# Altium footprint library WANGYU92100PcbLib.PcbLib: 392 footprints (part 13 of 25)
Each footprint in its own frame and in the unit in brackets; x right, y up, seen from the top. Pads: shape width x height; smd on the part's side, far side on the other; paste and mask are expansions set on the pad; w line width, h text height; cw(c..) or ccw(c..) is an arc to the next point about the centre after c.
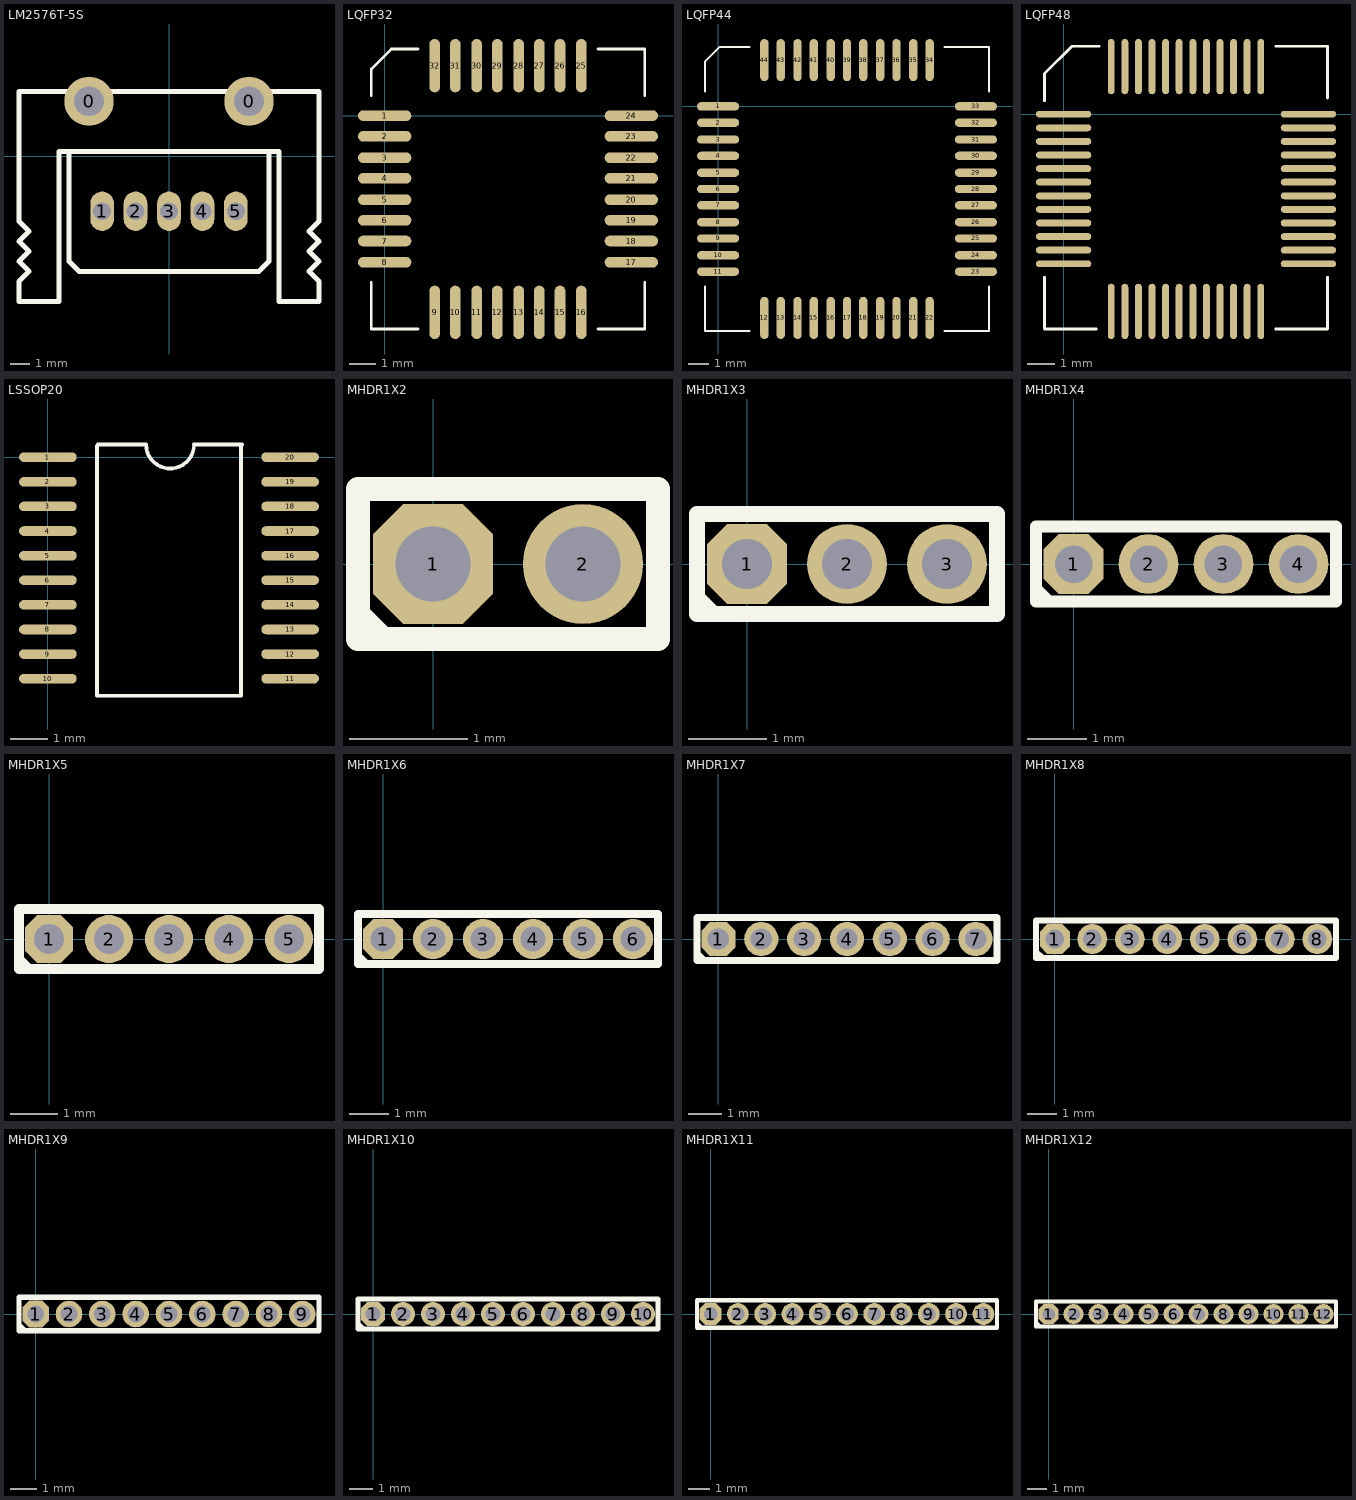
[diagram p12: the footprints below, top view; thin cyan lines are the x and y axes]

## LM2576T-5S [mm]
pads (7):
  round 2.5 hole 1.5: 0(-4.064,2.794) 0(4.064,2.794)
  oval 1.2x2 hole 0.9: 1(-3.4,-2.794) 2(-1.7,-2.794) 3(0,-2.794) 4(1.7,-2.794) 5(3.4,-2.794)
Top Overlay:
  lines w0.254: -5.08,0.254 -5.08,-0.254 -5.08,-5.334 -4.572,-5.842 4.572,-5.842 5.08,-5.334 5.08,-0.254 5.08,0.254 ; -7.62,-7.366 -5.588,-7.366 -5.588,0.254 5.588,0.254 5.588,-7.366 7.62,-7.366 7.62,-6.35 7.112,-5.842 7.62,-5.334 7.112,-4.826 7.62,-4.318 7.112,-3.81 7.62,-3.302 7.62,3.302 -7.62,3.302 -7.62,-3.302 -7.112,-3.81 -7.62,-4.318 -7.112,-4.826 -7.62,-5.334 -7.112,-5.842 -7.62,-6.35 -7.62,-7.366

## LQFP32 [mil]
pads (32):
  oval 80x16 smd: 1(0,0) 2(0,-31) 3(0,-63) 4(0,-94) 5(0,-126) 6(0,-157) 7(0,-188) 8(0,-220) 17(370,-220) 18(370,-188) 19(370,-157) 20(370,-126) 21(370,-94) 22(370,-63) 23(370,-31) 24(370,0)
  oval 16x80 smd: 9(75,-295) 10(106,-295) 11(138,-295) 12(169,-295) 13(201,-295) 14(232,-295) 15(263,-295) 16(295,-295) 25(295,75) 26(263,75) 27(232,75) 28(201,75) 29(169,75) 30(138,75) 31(106,75) 32(75,75)
Top Overlay:
  lines w4: -20,-250 -20,-320 50,-320 ; -20,30 -20,70 10,100 50,100 ; 320,-320 390,-320 390,-250 ; 320,100 390,100 390,30

## LQFP44 [mil]
pads (44):
  oval 80x16 smd: 1(0,0) 2(0,-31) 3(0,-63) 4(0,-94) 5(0,-126) 6(0,-157) 7(0,-188) 8(0,-220) 9(0,-251) 10(0,-283) 11(0,-314) 23(490,-314) 24(490,-283) 25(490,-251) 26(490,-220) 27(490,-188) 28(490,-157) 29(490,-126) 30(490,-94) 31(490,-63) 32(490,-31) 33(490,0)
  oval 16x80 smd: 12(88,-402) 13(119,-402) 14(151,-402) 15(182,-402) 16(214,-402) 17(245,-402) 18(276,-402) 19(308,-402) 20(339,-402) 21(371,-402) 22(402,-402) 34(402,88) 35(371,88) 36(339,88) 37(308,88) 38(276,88) 39(245,88) 40(214,88) 41(182,88) 42(151,88) 43(119,88) 44(88,88)
Top Overlay:
  lines w4: -25,-342 -25,-427 60,-427 ; -25,28 -25,85 3,113 60,113 ; 430,-427 515,-427 515,-342 ; 430,113 515,113 515,28

## LQFP48 [mil]
pads (48):
  oval 80x10 smd: 1(0,0) 2(0,-19.68) 3(0,-39.37) 4(0,-59.06) 5(0,-78.74) 6(0,-98.43) 7(0,-118.11) 8(0,-137.8) 9(0,-157.48) 10(0,-177.17) 11(0,-196.85) 12(0,-216.54) 25(354.33,-216.54) 26(354.33,-196.85) 27(354.33,-177.17) 28(354.33,-157.48) 29(354.33,-137.8) 30(354.33,-118.11) 31(354.33,-98.43) 32(354.33,-78.74) 33(354.33,-59.06) 34(354.33,-39.37) 35(354.33,-19.68) 36(354.33,0)
  oval 10x80 smd: 13(68.9,-285.43) 14(88.58,-285.43) 15(108.27,-285.43) 16(127.95,-285.43) 17(147.64,-285.43) 18(167.32,-285.43) 19(187.01,-285.43) 20(206.69,-285.43) 21(226.38,-285.43) 22(246.06,-285.43) 23(265.75,-285.43) 24(285.43,-285.43) 37(285.43,68.9) 38(265.75,68.9) 39(246.06,68.9) 40(226.38,68.9) 41(206.69,68.9) 42(187.01,68.9) 43(167.32,68.9) 44(147.64,68.9) 45(127.95,68.9) 46(108.27,68.9) 47(88.58,68.9) 48(68.9,68.9)
Top Overlay:
  lines w3.94: -27.56,-236.22 -27.56,-311.02 47.24,-311.02 ; -27.56,19.68 -27.56,59.06 11.81,98.43 51.18,98.43 ; 307.09,-311.02 381.89,-311.02 381.89,-236.22 ; 307.09,98.43 381.89,98.43 381.89,23.62

## LSSOP20 [mil]
pads (20):
  oval 60x10 smd: 1(0,0) 2(0,-25.59) 3(0,-51.18) 4(0,-76.77) 5(0,-102.36) 6(0,-127.95) 7(0,-153.54) 8(0,-179.13) 9(0,-204.72) 10(0,-230.31) 11(251.97,-230.31) 12(251.97,-204.72) 13(251.97,-179.13) 14(251.97,-153.54) 15(251.97,-127.95) 16(251.97,-102.36) 17(251.97,-76.77) 18(251.97,-51.18) 19(251.97,-25.59) 20(251.97,0)
Top Overlay:
  lines w3.94: 51.18,11.81 51.18,-248.03 200.79,-248.03 200.79,11.81 ; 52.13,13.19 102.13,13.19 ccw(c127.13,13.19) 152.13,13.19 202.13,13.19

## MHDR1X2 [mil]
pads (2):
  oct 40x40 hole 25: 1(0,0)
  round 40 hole 25: 2(50,0)
Top Overlay:
  lines w8: -25,-16.67 -16.67,-25 ; -25,-25 75,-25 75,25 -25,25 -25,-25

## MHDR1X3 [mil]
pads (3):
  oct 40x40 hole 25: 1(0,0)
  round 40 hole 25: 2(50,0) 3(100,0)
Top Overlay:
  lines w8: -25,-16.67 -16.67,-25 ; -25,-25 125,-25 125,25 -25,25 -25,-25

## MHDR1X4 [mil]
pads (4):
  oct 40x40 hole 25: 1(0,0)
  round 40 hole 25: 2(50,0) 3(100,0) 4(150,0)
Top Overlay:
  lines w8: -25,-16.67 -16.67,-25 ; -25,-25 175,-25 175,25 -25,25 -25,-25

## MHDR1X5 [mil]
pads (5):
  oct 40x40 hole 25: 1(0,0)
  round 40 hole 25: 2(50,0) 3(100,0) 4(150,0) 5(200,0)
Top Overlay:
  lines w8: -25,-16.67 -16.67,-25 ; -25,-25 225,-25 225,25 -25,25 -25,-25

## MHDR1X6 [mil]
pads (6):
  oct 40x40 hole 25: 1(0,0)
  round 40 hole 25: 2(50,0) 3(100,0) 4(150,0) 5(200,0) 6(250,0)
Top Overlay:
  lines w8: -25,-16.67 -16.67,-25 ; -25,-25 275,-25 275,25 -25,25 -25,-25

## MHDR1X7 [mil]
pads (7):
  oct 40x40 hole 25: 1(0,0)
  round 40 hole 25: 2(50,0) 3(100,0) 4(150,0) 5(200,0) 6(250,0) 7(300,0)
Top Overlay:
  lines w8: -25,-16.67 -16.67,-25 ; -25,-25 325,-25 325,25 -25,25 -25,-25

## MHDR1X8 [mil]
pads (8):
  oct 40x40 hole 25: 1(0,0)
  round 40 hole 25: 2(50,0) 3(100,0) 4(150,0) 5(200,0) 6(250,0) 7(300,0) 8(350,0)
Top Overlay:
  lines w8: -25,-16.67 -16.67,-25 ; -25,-25 375,-25 375,25 -25,25 -25,-25

## MHDR1X9 [mil]
pads (9):
  oct 40x40 hole 25: 1(0,0)
  round 40 hole 25: 2(50,0) 3(100,0) 4(150,0) 5(200,0) 6(250,0) 7(300,0) 8(350,0) 9(400,0)
Top Overlay:
  lines w8: -25,-16.67 -16.67,-25 ; -25,-25 425,-25 425,25 -25,25 -25,-25

## MHDR1X10 [mil]
pads (10):
  oct 40x40 hole 25: 1(0,0)
  round 40 hole 25: 2(50,0) 3(100,0) 4(150,0) 5(200,0) 6(250,0) 7(300,0) 8(350,0) 9(400,0) 10(450,0)
Top Overlay:
  lines w8: -25,-16.67 -16.67,-25 ; -25,-25 475,-25 475,25 -25,25 -25,-25

## MHDR1X11 [mil]
pads (11):
  oct 40x40 hole 25: 1(0,0)
  round 40 hole 25: 2(50,0) 3(100,0) 4(150,0) 5(200,0) 6(250,0) 7(300,0) 8(350,0) 9(400,0) 10(450,0) 11(500,0)
Top Overlay:
  lines w8: -25,-16.67 -16.67,-25 ; -25,-25 525,-25 525,25 -25,25 -25,-25

## MHDR1X12 [mil]
pads (12):
  oct 40x40 hole 25: 1(0,0)
  round 40 hole 25: 2(50,0) 3(100,0) 4(150,0) 5(200,0) 6(250,0) 7(300,0) 8(350,0) 9(400,0) 10(450,0) 11(500,0) 12(550,0)
Top Overlay:
  lines w8: -25,-16.67 -16.67,-25 ; -25,-25 575,-25 575,25 -25,25 -25,-25